# EAGLE library part YB2 (library nkk)
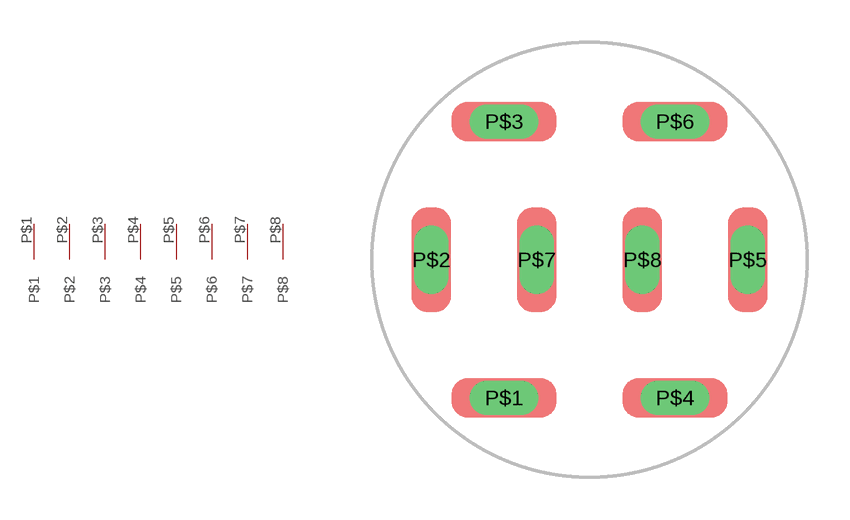
[diagram p0: symbol with the pads of YB2___K_01; footprint YB2___K_01]

Designator prefix -

## YB2  [YB2___K_01]
P$1  P$1
P$2  P$2
P$3  P$3
P$4  P$4
P$5  P$5
P$6  P$6
P$7  P$7
P$8  P$8

## Footprint YB2___K_01 (pad centres in mm)
drill 0.7 long: P$1 -2.997,-4.851; P$2 -5.55,0; P$3 -2.997,4.851; P$4 2.997,-4.851; P$5 5.55,0; P$6 2.997,4.851; P$7 -1.854,0; P$8 1.854,0